# EAGLE library part TPS51020 (library m-pad)
TI's TPS51020 dual voltage mode, DDR selectable, synchronous, step-down controller for notebook system power Description: The TPS51020 is a multi-function dualsynchronousstep-down controller for notebook system power. The part is specifically designed for high performance, high efficiency applications where the loss associated with a current sense resistor is unacceptable. The TPS51020 utilizes feed forward voltage mode control to attain high efficiency without sacrificing line response. Efficiency at light load conditions can be maintained high as well by incorporating autoskip operation. A selectable, Suspend to RAM (STR) supported, DDR option provides a one chip solution for all switching applications from 5-V/3.3-V supply to a complete DDR termination solution. Features: Wide Input Voltage Range: 4.5-V to 28-V Selectable Dual and DDR Modes Selectable Fixed Frequency Voltage Mode Integrated Selectable Output Discharge Advanced Power Good Logic Monitors bothChannels Selectable Autoskip Mode Integrated Boot Strap Diodes 180° Phase Shift Between Channels Integrated 5-V, 60-mA Regulator Input Feedforward Control 1% Internal 0.85-V Reference RDS(on) Overcurrent Detection (4200 ppm/°C) Integrated OVP, UVP and Power Good Timers 30-pin TSSOP Package Applications: Notebook Computers System Bus and I/O DDR I or DDR II Termination Please send any comments to: messi@users.sourceforge.net
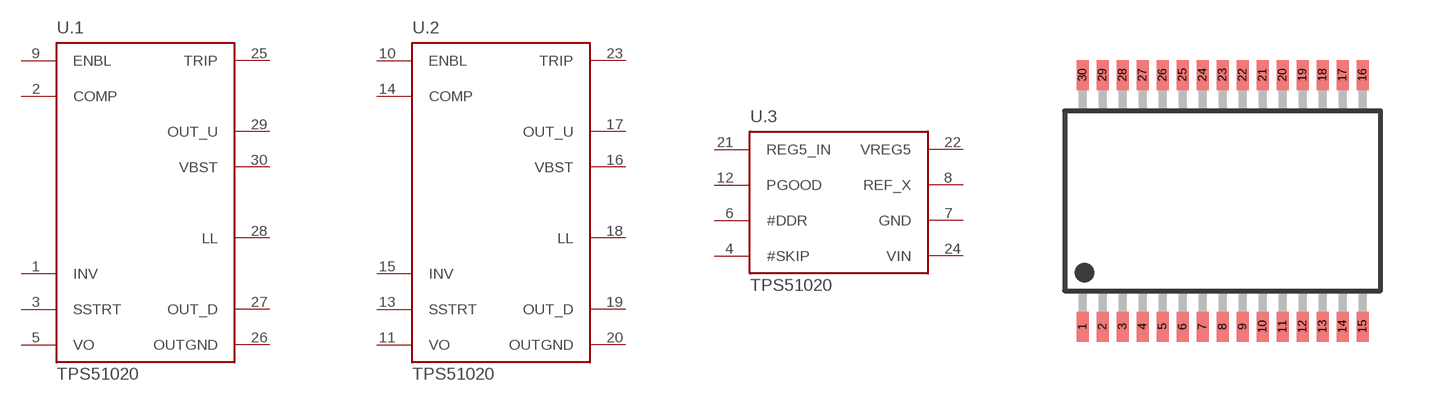
[diagram p156: symbol with the pads of TSSOP30; footprint TSSOP30]

Designator prefix U; gates .1=TPS51020 .2=TPS51020 .3=TPS51020_PWR

## TPS51020  [TSSOP30]
1  .1:INV  in
2  .1:COMP  in
3  .1:SSTRT  in
4  .3:#SKIP  in
5  .1:VO  in
6  .3:#DDR  in
7  .3:GND  pwr
8  .3:REF_X  out
9  .1:ENBL  in
10  .2:ENBL  in
11  .2:VO  in
12  .3:PGOOD  in
13  .2:SSTRT  in
14  .2:COMP  in
15  .2:INV  in
16  .2:VBST  in
17  .2:OUT_U  out
18  .2:LL
19  .2:OUT_D  out
20  .2:OUTGND  out
21  .3:REG5_IN  in
22  .3:VREG5  out
23  .2:TRIP  in
24  .3:VIN  pwr
25  .1:TRIP  in
26  .1:OUTGND  out
27  .1:OUT_D  out
28  .1:LL
29  .1:OUT_U  out
30  .1:VBST  in

## Footprint TSSOP30 (pad centres in mm)
smd 0.3 x 0.75: 1 -3.5,-3.15; 2 -3,-3.15; 3 -2.5,-3.15; 4 -2,-3.15; 5 -1.5,-3.15; 6 -1,-3.15; 7 -0.5,-3.15; 8 0,-3.15; 9 0.5,-3.15; 10 1,-3.15; 11 1.5,-3.15; 12 2,-3.15; 13 2.5,-3.15; 14 3,-3.15; 15 3.5,-3.15; 16 3.5,3.15; 17 3,3.15; 18 2.5,3.15; 19 2,3.15; 20 1.5,3.15; 21 1,3.15; 22 0.5,3.15; 23 0,3.15; 24 -0.5,3.15; 25 -1,3.15; 26 -1.5,3.15; 27 -2,3.15; 28 -2.5,3.15; 29 -3,3.15; 30 -3.5,3.15